# EAGLE library part 7-215079-8 (library 7-215079-8)
8 way top entry micro-match PCB socket TE Connectivity Micro-Match Series 2.54mm 8 Way 2 Row Straight PCB Socket Through Hole Female-On-Board Source: Datasheet <http://www.farnell.com/datasheets/1699417.pdf>
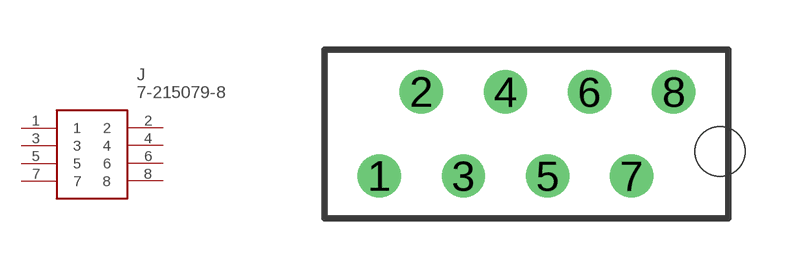
[diagram p0: symbol with the pads of 7-215079-8; footprint 7-215079-8]

Designator prefix J

## 7-215079-8 (Allied_Number: 70346681; Allied_Price-Stock: http://www.alliedelec.com/te-connectivity-7-215079-8/70346681/; Description: 8 way top entry micro-match PCB socket TE Connectivity Micro-Match Series 2.54mm 8 Way 2 Row Straight PCB Socket Through Hole Female-On-Board; Height: mm; Manufacturer_Name: TE Connectivity; Manufacturer_Part_Number: 7-215079-8; Mouser_Part_Number: 571-7-215079-8; Mouser_Price-Stock: https://www.mouser.com/Search/Refine.aspx?Keyword=571-7-215079-8; RS_Part_Number: 3018032P; RS_Price-Stock: http://uk.rs-online.com/web/p/products/3018032P)  [7-215079-8]
1  1
2  2
3  3
4  4
5  5
6  6
7  7
8  8

## Footprint 7-215079-8 (pad centres in mm)
7-215079-8
drill 0.8 pad 1.3: 1 -8.89,-2.54; 2 -7.62,0; 3 -6.35,-2.54; 4 -5.08,0; 5 -3.81,-2.54; 6 -2.54,0; 7 -1.27,-2.54; 8 0,0
hole 1.5 at 1.4,-1.8